# Altium footprint library 矩形板V6.0(可制造).PcbLib: 35 footprints (part 1 of 3)
Each footprint in its own frame and in the unit in brackets; x right, y up, seen from the top. Pads: shape width x height; smd on the part's side, far side on the other; paste and mask are expansions set on the pad; w line width, h text height; cw(c..) or ccw(c..) is an arc to the next point about the centre after c.
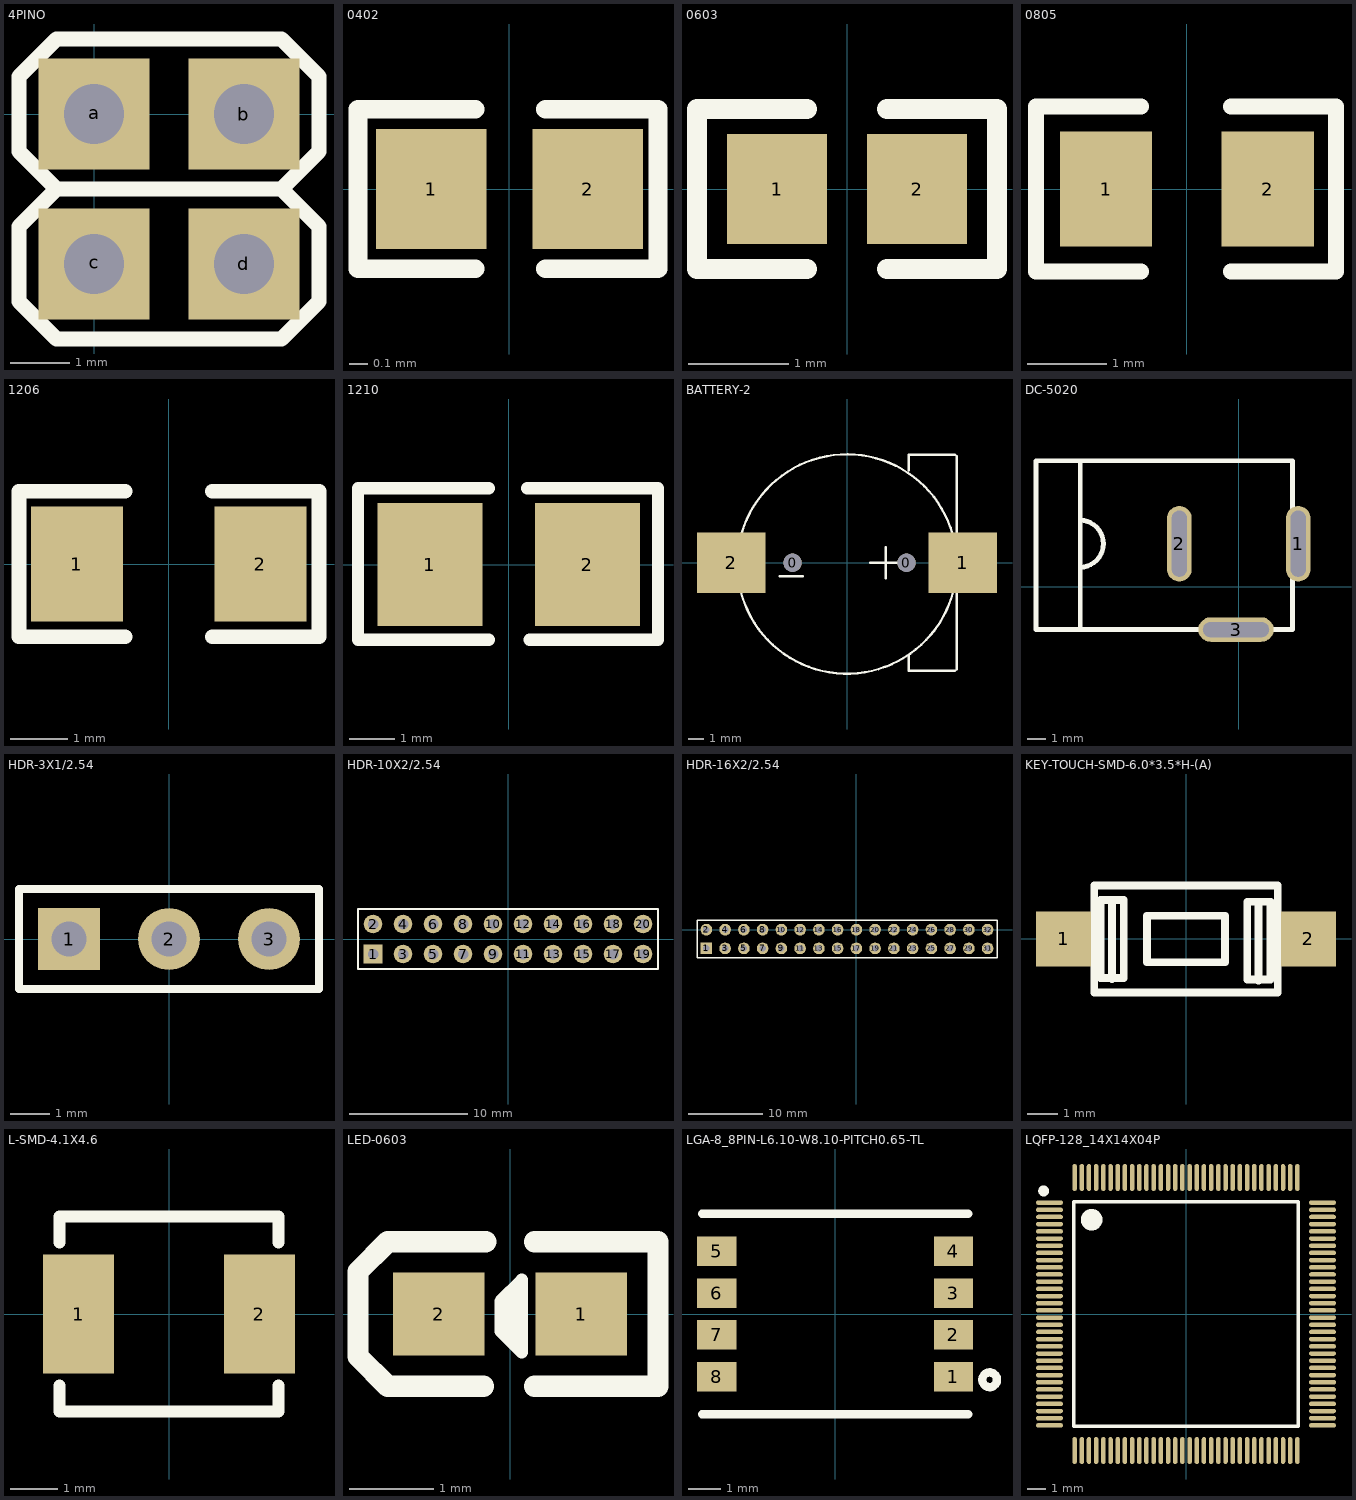
[diagram p0: the footprints below, top view; thin cyan lines are the x and y axes]

## 4PINO [mil]
pads (4):
  rect 74x74 hole 40: a(0,0) b(100,0) c(0,-100) d(100,-100)
Top Overlay:
  lines w10: -25,-50 125,-50 ; -25,-50 -50,-25 -50,25 -25,50 125,50 150,25 150,-25 125,-50 ; -25,-50 -50,-75 -50,-125 -25,-150 125,-150 150,-125 150,-75 125,-50
Mechanical 15:
  text "3" at -88.58,-83.69 h40
  text "1" at -81.1,20.25 h40
  text "4" at 165.69,-87.9 h40
  text "2" at 159.84,10.01 h40

## 0402 [mm]
pads (2):
  rect 0.6x0.65 smd: 1(-0.424,0) 2(0.424,0)
Top Overlay:
  lines w0.102: -0.185,-0.432 -0.287,-0.432 -0.82,-0.432 -0.82,0.432 -0.185,0.432 ; 0.196,-0.432 0.805,-0.432 0.805,0.432 0.272,0.432 0.196,0.432

## 0603 [mm]
pads (2):
  rect 1x1.1 smd: 1(-0.7,0) 2(0.7,0)
Top Overlay:
  lines w0.2: -0.4,-0.8 -1.5,-0.8 -1.5,-0.2 -1.5,0.8 -0.4,0.8 ; 0.4,-0.8 1.5,-0.8 1.5,0.8 0.4,0.8

## 0805 [mm]
pads (2):
  rect 1.16x1.45 smd: 1(-1.016,0) 2(1.016,0)
Top Overlay:
  lines w0.2: -0.577,-1.035 -1.897,-1.035 -1.897,1.035 -0.577,1.035 ; 0.555,-1.035 1.875,-1.035 1.875,1.035 0.555,1.035

## 1206 [mm]
pads (2):
  rect 1.6x2 smd: 1(-1.6,0) 2(1.6,0)
Top Overlay:
  lines w0.254: -0.762,-1.27 -2.61,-1.27 -2.61,1.27 -0.762,1.27 ; 0.762,-1.27 2.62,-1.27 2.62,1.27 0.762,1.27

## 1210 [mil]
pads (2):
  rect 90.56x106.3 smd: 1(-68,0) 2(68,0)
Top Overlay:
  lines w10.63: -17,-65 -130,-65 -130,66 -17,66 ; 16,66 129,66 129,-65 18,-65 19,-65

## BATTERY-2 [mm]
pads (4):
  round 1.2 hole 1.2: 0(-3.581,0) 0(3.912,0)
  rect 4.5x4 smd: 1(7.62,0) 2(-7.62,0)
Top Overlay:
  lines w0.152: -7.221,0 ccw(c-0.002,-0.081) -7.219,0.127 ; -4.433,-0.889 -2.909,-0.889 ; 1.524,0 3.556,0 ; 2.54,-1.016 2.54,1.016 ; 4.064,-6.096 4.064,-7.112 7.112,-7.112 7.22,-7.004 7.22,0 7.22,7.004 7.112,7.112 4.064,7.112 4.064,6.096

## DC-5020 [mm]
pads (3):
  oval 1.3x3.999 hole 0.8 slot 3.5 at 90 deg: 1(3.15,2.275) 2(-3.15,2.275)
  oval 3.999x1.3 hole 0.8 slot 3.5 at 0 deg: 3(-0.15,-2.275)
Top Overlay:
  lines w0.254: -8.4,-2.275 -8.4,6.675 ; -8.4,1.025 ccw(c-8.428,2.275) -8.4,3.524 ; -10.75,-2.275 2.85,-2.275 2.85,6.675 -10.75,6.675 -10.75,-2.275

## HDR-3X1/2.54 [mil]
pads (3):
  rect 62x62 hole 35: 1(-100,0)
  round 62 hole 35: 2(0,0) 3(100,0)
Top Overlay:
  lines w7.99: -75,50 150,50
  lines w8: -75,50 -150,50 -150,-50 150,-50 150,50

## HDR-10X2/2.54 [mil]
pads (20):
  rect 62x62 hole 35: 1(-450,-50)
  round 62 hole 35: 2(-450,50) 3(-350,-50) 4(-350,50) 5(-250,-50) 6(-250,50) 7(-150,-50) 8(-150,50) 9(-50,-50) 10(-50,50) 11(50,-50) 12(50,50) 13(150,-50) 14(150,50) 15(250,-50) 16(250,50) 17(350,-50) 18(350,50) 19(450,-50) 20(450,50)
Top Overlay:
  lines w8: -500,-100 -500,100 -425,100 500,100 500,-100 -425,-100 -500,-100

## HDR-16X2/2.54 [mil]
pads (32):
  rect 62x62 hole 35 copper offset 0.01,-0.01: 1(-800,-100.01)
  round 62 hole 35: 2(-800,-0.01) 3(-700,-100.01) 4(-700,-0.01) 5(-600,-100.01) 6(-600,-0.01) 7(-500,-100.01) 8(-500,-0.01) 9(-400,-100.01) 10(-400,-0.01) 11(-300,-100.01) 12(-300,-0.01) 13(-200,-100.01) 14(-200,-0.01) 15(-100,-100.01) 16(-100,-0.01) 17(0,-100.01) 18(0,-0.01) 19(100,-100.01) 20(100,-0.01) 21(200,-100.01) 22(200,-0.01) 23(300,-100.01) 24(300,-0.01) 25(400,-100.01) 26(400,-0.01) 27(500,-100.01) 28(500,-0.01) 29(600,-100.01) 30(600,-0.01) 31(700,-100.01) 32(700,-0.01)
Top Overlay:
  lines w8: -850,-150 750.01,-150 750.01,50 -850,50 -850,-150

## KEY-TOUCH-SMD-6.0*3.5*H-(A) [mm]
pads (2):
  rect 1.8x1.8 smd: 1(-4,0) 2(4,0)
Top Overlay:
  lines w0.254: -2.421,-1.311 -2.421,1.229 ; 2.373,-1.36 2.373,1.18 ; -3,-1.75 -3,1.75 3,1.75 3,-1.75 -3,-1.75 ; -2.794,-1.27 -2.794,1.27 -2.032,1.27 -2.032,-1.27 -2.794,-1.27 ; -1.27,-0.762 -1.27,0.762 1.27,0.762 1.27,-0.762 -1.27,-0.762 ; 1.999,-1.32 1.999,1.22 2.761,1.22 2.761,-1.32 1.999,-1.32

## L-SMD-4.1X4.6 [mm]
pads (2):
  rect 1.5x2.5 smd: 1(-1.9,0) 2(1.9,0)
Top Overlay:
  lines w0.254: -2.3,-1.5 -2.3,-2.05 2.3,-2.05 2.3,-1.5 ; -2.3,1.5 -2.3,2.05 2.3,2.05 ; 2.3,1.5 2.3,2.049

## LED-0603 [mil]
pads (2):
  rect 43x39 smd: 1(33.5,0) 2(-33.5,0)
Top Overlay:
  lines w5.91: 0.5,-11 0.5,9 ; 5.5,-15 5.5,16 -4.5,6 -4.5,-8 5.5,-18 5.5,-9
  lines w10: -12.5,-34 -57.5,-34 -71.5,-20 -71.5,20 -57.5,34 -11.5,34 ; 11.5,-34 69.5,-34 69.5,34 11.5,34

## LGA-8_8PIN-L6.10-W8.10-PITCH0.65-TL [mm]
pads (8):
  rect 1.2x0.9 smd: 1(3.6,-1.905) 2(3.6,-0.635) 3(3.6,0.635) 4(3.6,1.905) 5(-3.6,1.905) 6(-3.6,0.635) 7(-3.6,-0.635) 8(-3.6,-1.905)
Top Overlay:
  circle w0.254: c4.7,-2 r0.224
  lines w0.254: -4.05,-3.05 4.05,-3.05 ; -4.05,3.05 4.05,3.05

## LQFP-128_14X14X04P [mm]
pads (128):
  oval 1.5x0.25 smd: 1(-7.6,6.2) 2(-7.6,5.799) 3(-7.6,5.4) 4(-7.6,5.001) 5(-7.6,4.6) 6(-7.6,4.201) 7(-7.6,3.8) 8(-7.6,3.401) 9(-7.6,3) 10(-7.6,2.601) 11(-7.6,2.2) 12(-7.6,1.801) 13(-7.6,1.4) 14(-7.6,1.001) 15(-7.6,0.599) 16(-7.6,0.201) 17(-7.6,-0.201) 18(-7.6,-0.599) 19(-7.6,-1.001) 20(-7.6,-1.4) 21(-7.6,-1.801) 22(-7.6,-2.2) 23(-7.6,-2.601) 24(-7.6,-3) 25(-7.6,-3.401) 26(-7.6,-3.8) 27(-7.6,-4.201) 28(-7.6,-4.6) 29(-7.6,-5.001) 30(-7.6,-5.4) 31(-7.6,-5.799) 32(-7.6,-6.2) 65(7.6,-6.2) 66(7.6,-5.799) 67(7.6,-5.4) 68(7.6,-5.001) 69(7.6,-4.6) 70(7.6,-4.201) 71(7.6,-3.8) 72(7.6,-3.401) 73(7.6,-3) 74(7.6,-2.601) 75(7.6,-2.2) 76(7.6,-1.801) 77(7.6,-1.4) 78(7.6,-1.001) 79(7.6,-0.599) 80(7.6,-0.201) 81(7.6,0.201) 82(7.6,0.599) 83(7.6,1.001) 84(7.6,1.4) 85(7.6,1.801) 86(7.6,2.2) 87(7.6,2.601) 88(7.6,3) 89(7.6,3.401) 90(7.6,3.8) 91(7.6,4.201) 92(7.6,4.6) 93(7.6,5.001) 94(7.6,5.4) 95(7.6,5.799) 96(7.6,6.2)
  oval 0.25x1.5 smd: 33(-6.2,-7.6) 34(-5.799,-7.6) 35(-5.4,-7.6) 36(-5.001,-7.6) 37(-4.6,-7.6) 38(-4.201,-7.6) 39(-3.8,-7.6) 40(-3.401,-7.6) 41(-3,-7.6) 42(-2.601,-7.6) 43(-2.2,-7.6) 44(-1.801,-7.6) 45(-1.4,-7.6) 46(-1.001,-7.6) 47(-0.599,-7.6) 48(-0.201,-7.6) 49(0.201,-7.6) 50(0.599,-7.6) 51(1.001,-7.6) 52(1.4,-7.6) 53(1.801,-7.6) 54(2.2,-7.6) 55(2.601,-7.6) 56(3,-7.6) 57(3.401,-7.6) 58(3.8,-7.6) 59(4.201,-7.6) 60(4.6,-7.6) 61(5.001,-7.6) 62(5.4,-7.6) 63(5.799,-7.6) 64(6.2,-7.6) 97(6.2,7.6) 98(5.799,7.6) 99(5.4,7.6) 100(5.001,7.6) 101(4.6,7.6) 102(4.201,7.6) 103(3.8,7.6) 104(3.401,7.6) 105(3,7.6) 106(2.601,7.6) 107(2.2,7.6) 108(1.801,7.6) 109(1.4,7.6) 110(1.001,7.6) 111(0.599,7.6) 112(0.201,7.6) 113(-0.201,7.6) 114(-0.599,7.6) 115(-1.001,7.6) 116(-1.4,7.6) 117(-1.801,7.6) 118(-2.2,7.6) 119(-2.601,7.6) 120(-3,7.6) 121(-3.401,7.6) 122(-3.8,7.6) 123(-4.201,7.6) 124(-4.6,7.6) 125(-5.001,7.6) 126(-5.4,7.6) 127(-5.799,7.6) 128(-6.2,7.6)
Top Overlay:
  lines w0.2: -6.25,-6.25 6.25,-6.25 6.25,6.25 -6.25,6.25 -6.25,-6.25
  lines w0.3: -7.775,6.848 cw(c-7.925,6.849) -7.775,6.85
  lines w0.6: -4.95,5.245 cw(c-5.25,5.248) -4.95,5.25